# Altium footprint library WE-EHPI.PcbLib: 1 footprints
Each footprint in its own frame and in the unit in brackets; x right, y up, seen from the top. Pads: shape width x height; smd on the part's side, far side on the other; paste and mask are expansions set on the pad; w line width, h text height; cw(c..) or ccw(c..) is an arc to the next point about the centre after c.
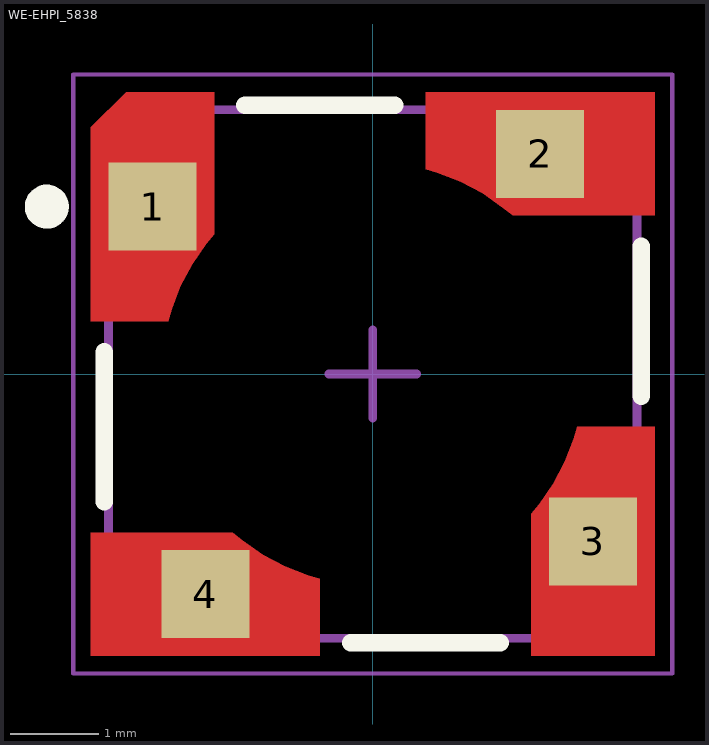
[diagram p0: the footprint, top view; thin cyan lines are the x and y axes]

## WE-EHPI_5838 [mm] "Power Inductor 4-Leads, SMD, Body 6x6mm"
height 4
pads (4):
  rect 1x1 smd paste-403.566 mask-403.566: 1(-2.5,1.9) 2(1.9,2.5) 3(2.5,-1.9) 4(-1.9,-2.5)
Top Layer:
  region: -3.2,0.6 -3.2,2.8 -2.8,3.2 -1.8,3.2 -1.8,1.588 -1.8,1.587 -1.89,1.479 -2.05,1.247 -2.183,0.998 -2.285,0.735 -2.324,0.6
  region: -0.6,-3.2 -3.2,-3.2 -3.2,-1.8 -1.588,-1.8 -1.479,-1.89 -1.247,-2.05 -0.998,-2.183 -0.735,-2.285 -0.6,-2.324
  region: 3.2,-0.6 3.2,-3.2 1.8,-3.2 1.8,-1.588 1.89,-1.479 2.05,-1.247 2.183,-0.998 2.285,-0.735 2.324,-0.6
  region: 0.6,3.2 3.2,3.2 3.2,1.8 1.588,1.8 1.479,1.89 1.247,2.05 0.998,2.183 0.735,2.285 0.6,2.324
Top Overlay:
  circle w0.25: c-3.7,1.9 r0.125
  lines w0.2: -3.05,-1.45 -3.05,0.25 ; -1.45,3.05 0.25,3.05 ; -0.25,-3.05 1.45,-3.05 ; 3.05,-0.25 3.05,1.45
Top Assembly:
  lines w0.1: -3,-3 3,-3 3,3 -2,3 -3,2 -3,-3
Top Designator:
  text ".Designator" at -3.647,-0.357 h1
Top 3D Body:
  lines w0.1: -3,-3 3,-3 3,3 -2,3 -3,2 -3,-3
Top Courtyard:
  lines w0.05: -3.4,-3.4 3.4,-3.4 3.4,3.4 -3.4,3.4 -3.4,-3.4
Top Component Center:
  lines w0.1: -0.5,0 0.5,0 ; 0,-0.5 0,0.5
3D body "STEP-WE-EHPI-5838-rev1.stp": height 4, standoff 0, extent -3,-3 3,3